# EAGLE library part 14PIN (library JST_ePH)
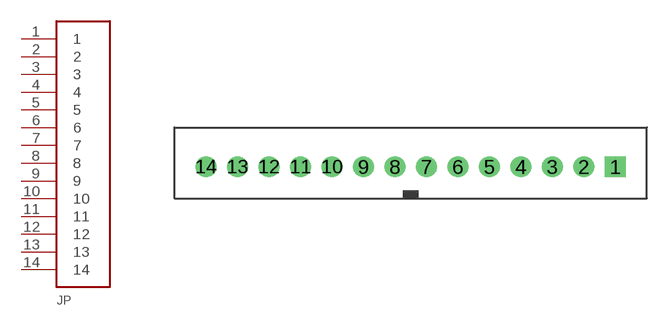
[diagram p8: symbol with the pads of B14B-PH-K-S; footprint B14B-PH-K-S]

Designator prefix JP

## 14PIN  [B14B-PH-K-S]
1  1
2  2
3  3
4  4
5  5
6  6
7  7
8  8
9  9
10  10
11  11
12  12
13  13
14  14

## Footprint B14B-PH-K-S (pad centres in mm)
drill 0.813 square: 1 13,0
drill 0.813 round: 2 11,0; 3 9,0; 4 7,0; 5 5,0; 6 3,0; 7 1,0; 8 -1,0; 9 -3,0; 10 -5,0; 11 -7,0; 12 -9,0; 13 -11,0; 14 -13,0